# EAGLE library part HDR-2X3 (library RS-extra-cons)
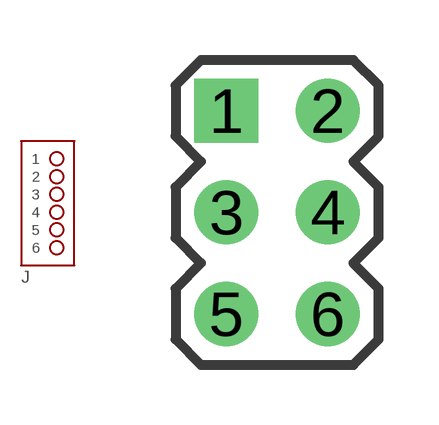
[diagram p14: symbol with the pads of HDR-2X3; footprint HDR-2X3]

Designator prefix J

## HDR-2X3  [HDR-2X3]
1  1  pas
2  2  pas
3  3  pas
4  4  pas
5  5  pas
6  6  pas

## Footprint HDR-2X3 (pad centres in mm)
drill 1.067 square: 1 -1.27,2.54
drill 1.067: 2 1.27,2.54; 3 -1.27,0; 4 1.27,0; 5 -1.27,-2.54; 6 1.27,-2.54